# Altium integrated library Panasonic Relays Power Relays (Over 2A).IntLib: 286 symbols (part 7 of 8)
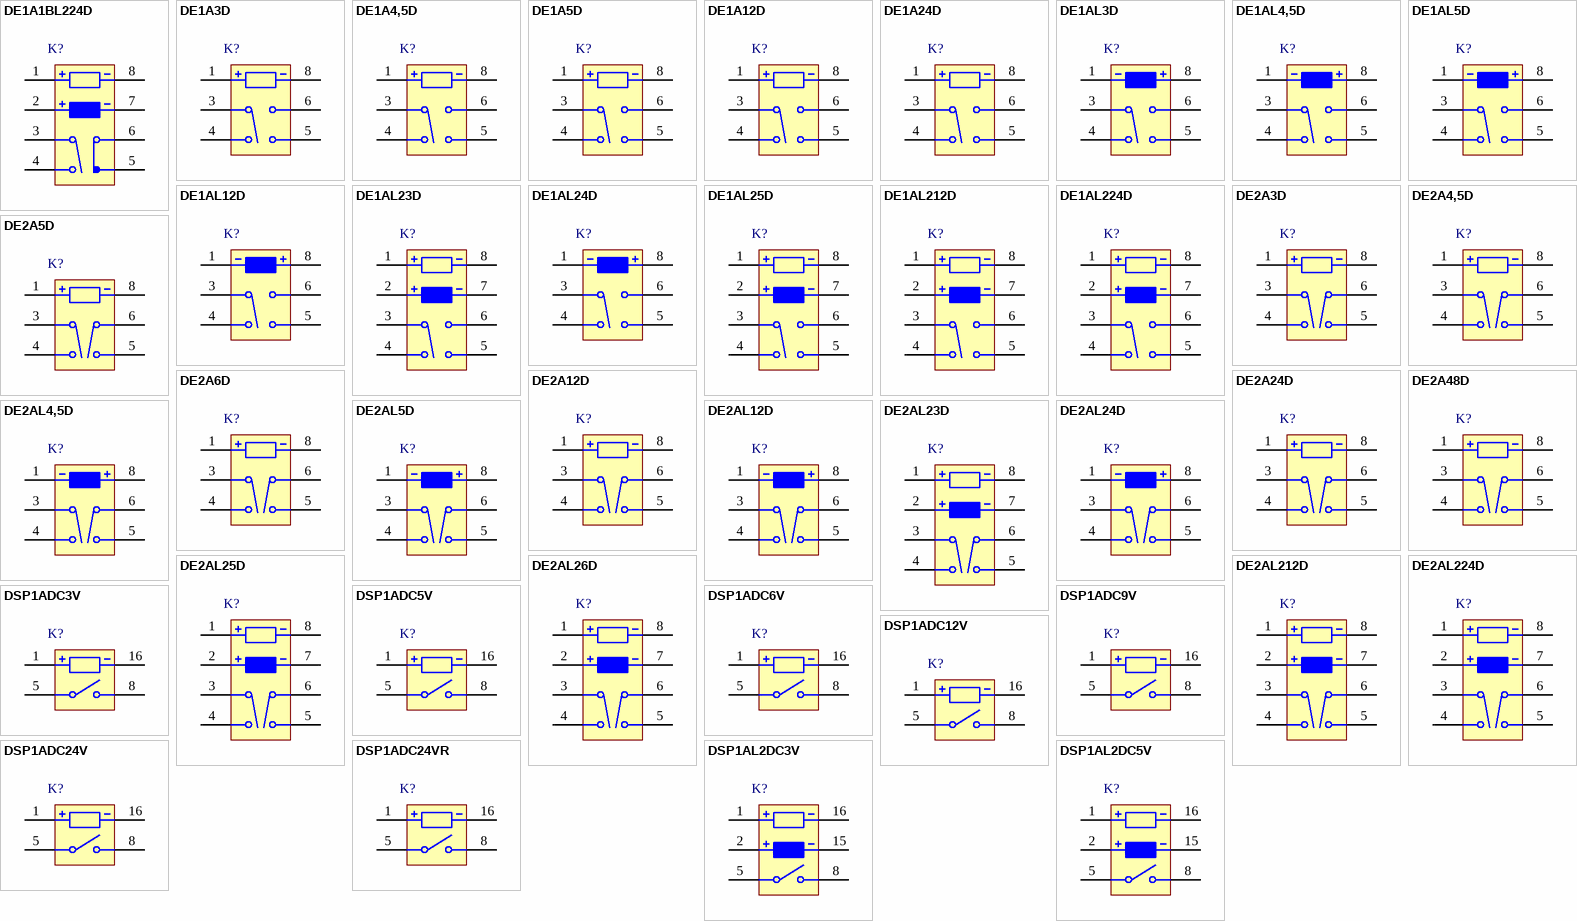
[diagram p13: symbols DE1A1BL224D to DSP1AL2DC5V]

## DSP1ADC24VR
designator K?
DSP Relays, 24 V Coil Voltage, 300 mW Nominal Operating Power, -40 to 65 degC, 4-Pin DSP, Carton, Case, RoHS; Manufacturer: Panasonic; PartNumber: DSP1ADC24VR; Coil Voltage: 24 V; Electrical Life: 1x10^5; Max Switching Current: 8 A; Max Switching Voltage: 250 V AC, 30 V DC; Mechanical Life(Min.operation): 5x10^7; Nominal Operating Power: 300 mW; Pb-Free: True; DatasheetVersion: 151106D; PackageVersion: 151106D, 04/2008; PackageReference: DSP-4-2020x1100x1050; PackageDescription: 4-Pin Through Hole Terminal Package, Body 20.2 x 11 mm; Packing: Carton, Case; RoHS: True; Series: DSP Relays; Mounting Technology: Through Hole; ComponentLink1Description: Manufacturer URL; ComponentLink1URL: http://www3.panasonic.biz/ac/ae/index.jsp; ComponentLink2Description: Datasheet; ComponentLink2URL: http://www.produktinfo.conrad.com/datenblaetter/500000-524999/504985-da-01-en-LEISTUNGSRELAIS_DSP1_1A1B_5A_12V.pdf; ComponentLink3Description: Package Specification; ComponentLink3URL: http://www.produktinfo.conrad.com/datenblaetter/500000-524999/504985-da-01-en-LEISTUNGSRELAIS_DSP1_1A1B_5A_12V.pdf
footprint PNSC-DSP-4-2020x1100x1050_V (DSP, 4-Leads, Body 20.2x11mm)
pins: 1 +, 5, 8, 16 -

## DSP1AL2DC3V
designator K?
DSP Relays, 3 V Coil Voltage, 300 mW Nominal Operating Power, -40 to 65 degC, 6-Pin DSP, Carton, Case, RoHS; Manufacturer: Panasonic; PartNumber: DSP1AL2DC3V; Coil Voltage: 3 V; Electrical Life: 1x10^5; Max Switching Current: 8 A; Max Switching Voltage: 250 V AC, 30 V DC; Mechanical Life(Min.operation): 5x10^7; Nominal Operating Power: 300 mW; Pb-Free: True; DatasheetVersion: 151106D; PackageVersion: 151106D, 04/2008; PackageReference: DSP-6-2020x1100x1050-1a; PackageDescription: 6-Pin Through Hole Terminal Package, Body 20.2 x 11 mm; Packing: Carton, Case; RoHS: True; Series: DSP Relays; Mounting Technology: Through Hole; ComponentLink1Description: Manufacturer URL; ComponentLink1URL: http://www3.panasonic.biz/ac/ae/index.jsp; ComponentLink2Description: Datasheet; ComponentLink2URL: http://www.produktinfo.conrad.com/datenblaetter/500000-524999/504985-da-01-en-LEISTUNGSRELAIS_DSP1_1A1B_5A_12V.pdf; ComponentLink3Description: Package Specification; ComponentLink3URL: http://www.produktinfo.conrad.com/datenblaetter/500000-524999/504985-da-01-en-LEISTUNGSRELAIS_DSP1_1A1B_5A_12V.pdf
footprint PNSC-DSP-6-2020x1100x1050-1a_V (DSP, 6-Leads, Body 20.2x11mm)
pins: 1 +, 2 +, 5, 8, 15 -, 16 -

## DSP1AL2DC5V
designator K?
DSP Relays, 5 V Coil Voltage, 300 mW Nominal Operating Power, -40 to 65 degC, 6-Pin DSP, Carton, Case, RoHS; Manufacturer: Panasonic; PartNumber: DSP1AL2DC5V; Coil Voltage: 5 V; Electrical Life: 1x10^5; Max Switching Current: 8 A; Max Switching Voltage: 250 V AC, 30 V DC; Mechanical Life(Min.operation): 5x10^7; Nominal Operating Power: 300 mW; Pb-Free: True; DatasheetVersion: 151106D; PackageVersion: 151106D, 04/2008; PackageReference: DSP-6-2020x1100x1050-1a; PackageDescription: 6-Pin Through Hole Terminal Package, Body 20.2 x 11 mm; Packing: Carton, Case; RoHS: True; Series: DSP Relays; Mounting Technology: Through Hole; ComponentLink1Description: Manufacturer URL; ComponentLink1URL: http://www3.panasonic.biz/ac/ae/index.jsp; ComponentLink2Description: Datasheet; ComponentLink2URL: http://www.produktinfo.conrad.com/datenblaetter/500000-524999/504985-da-01-en-LEISTUNGSRELAIS_DSP1_1A1B_5A_12V.pdf; ComponentLink3Description: Package Specification; ComponentLink3URL: http://www.produktinfo.conrad.com/datenblaetter/500000-524999/504985-da-01-en-LEISTUNGSRELAIS_DSP1_1A1B_5A_12V.pdf
footprint PNSC-DSP-6-2020x1100x1050-1a_V (DSP, 6-Leads, Body 20.2x11mm)
pins: 1 +, 2 +, 5, 8, 15 -, 16 -

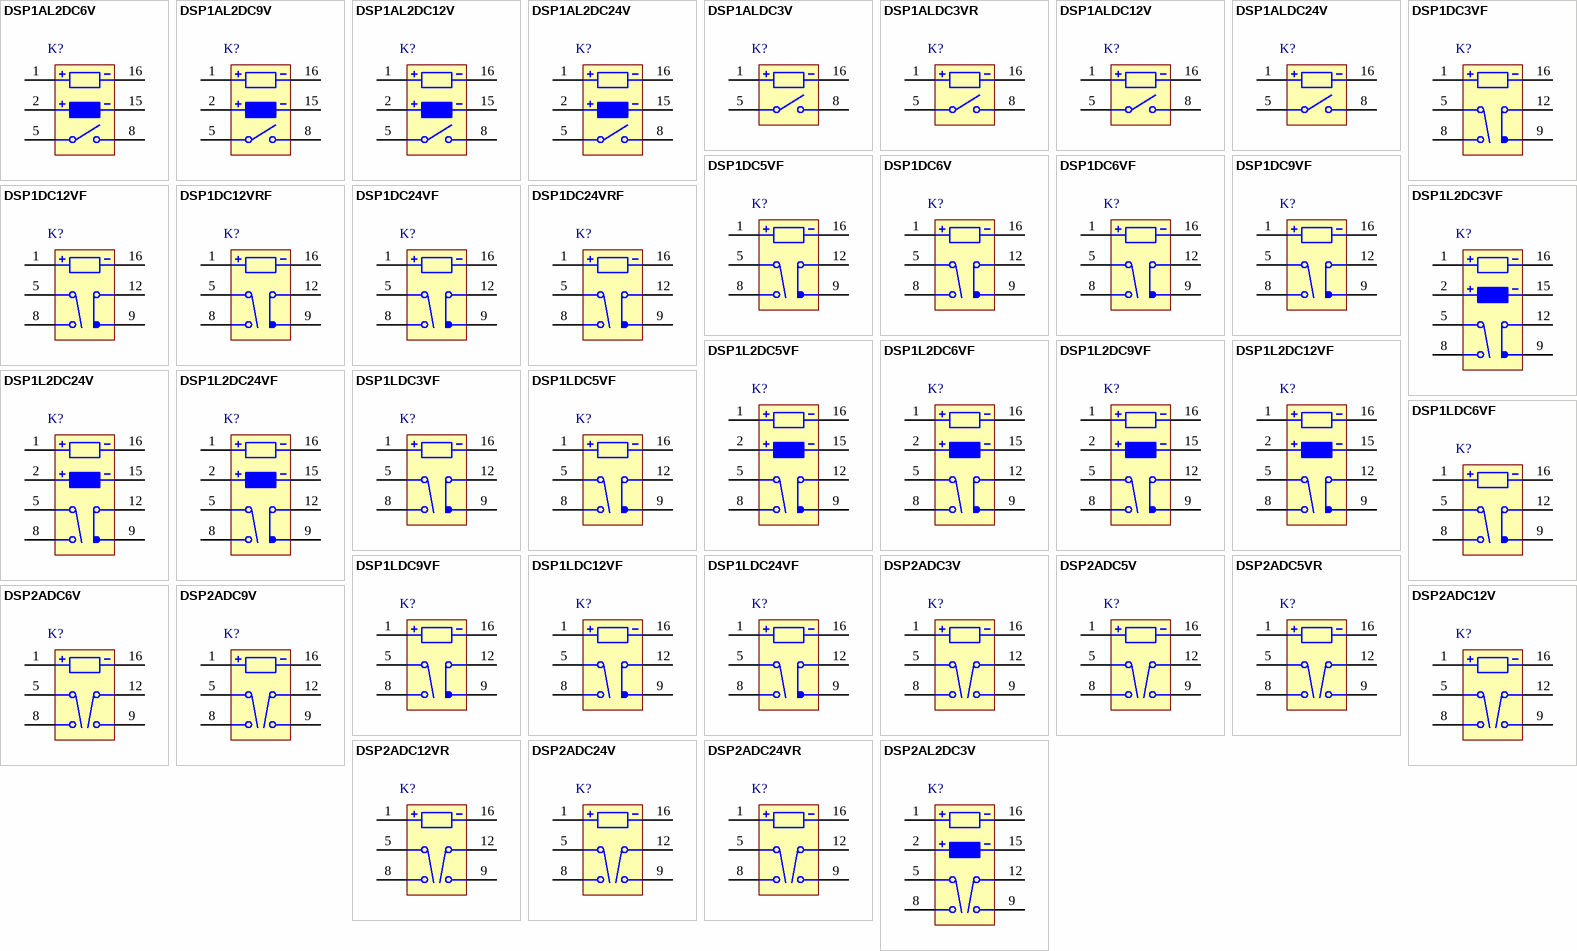
[diagram p6: symbols DSP1AL2DC6V to DSP2AL2DC3V]

## DSP1AL2DC6V
designator K?
DSP Relays, 6 V Coil Voltage, 300 mW Nominal Operating Power, -40 to 65 degC, 6-Pin DSP, Carton, Case, RoHS; Manufacturer: Panasonic; PartNumber: DSP1AL2DC6V; Coil Voltage: 6 V; Electrical Life: 1x10^5; Max Switching Current: 8 A; Max Switching Voltage: 250 V AC, 30 V DC; Mechanical Life(Min.operation): 5x10^7; Nominal Operating Power: 300 mW; Pb-Free: True; DatasheetVersion: 151106D; PackageVersion: 151106D, 04/2008; PackageReference: DSP-6-2020x1100x1050-1a; PackageDescription: 6-Pin Through Hole Terminal Package, Body 20.2 x 11 mm; Packing: Carton, Case; RoHS: True; Series: DSP Relays; Mounting Technology: Through Hole; ComponentLink1Description: Manufacturer URL; ComponentLink1URL: http://www3.panasonic.biz/ac/ae/index.jsp; ComponentLink2Description: Datasheet; ComponentLink2URL: http://www.produktinfo.conrad.com/datenblaetter/500000-524999/504985-da-01-en-LEISTUNGSRELAIS_DSP1_1A1B_5A_12V.pdf; ComponentLink3Description: Package Specification; ComponentLink3URL: http://www.produktinfo.conrad.com/datenblaetter/500000-524999/504985-da-01-en-LEISTUNGSRELAIS_DSP1_1A1B_5A_12V.pdf
footprint PNSC-DSP-6-2020x1100x1050-1a_V (DSP, 6-Leads, Body 20.2x11mm)
pins: 1 +, 2 +, 5, 8, 15 -, 16 -

## DSP1AL2DC9V
designator K?
DSP Relays, 9 V Coil Voltage, 300 mW Nominal Operating Power, -40 to 65 degC, 6-Pin DSP, Carton, Case, RoHS; Manufacturer: Panasonic; PartNumber: DSP1AL2DC9V; Coil Voltage: 9 V; Electrical Life: 1x10^5; Max Switching Current: 8 A; Max Switching Voltage: 250 V AC, 30 V DC; Mechanical Life(Min.operation): 5x10^7; Nominal Operating Power: 300 mW; Pb-Free: True; DatasheetVersion: 151106D; PackageVersion: 151106D, 04/2008; PackageReference: DSP-6-2020x1100x1050-1a; PackageDescription: 6-Pin Through Hole Terminal Package, Body 20.2 x 11 mm; Packing: Carton, Case; RoHS: True; Series: DSP Relays; Mounting Technology: Through Hole; ComponentLink1Description: Manufacturer URL; ComponentLink1URL: http://www3.panasonic.biz/ac/ae/index.jsp; ComponentLink2Description: Datasheet; ComponentLink2URL: http://www.produktinfo.conrad.com/datenblaetter/500000-524999/504985-da-01-en-LEISTUNGSRELAIS_DSP1_1A1B_5A_12V.pdf; ComponentLink3Description: Package Specification; ComponentLink3URL: http://www.produktinfo.conrad.com/datenblaetter/500000-524999/504985-da-01-en-LEISTUNGSRELAIS_DSP1_1A1B_5A_12V.pdf
footprint PNSC-DSP-6-2020x1100x1050-1a_V (DSP, 6-Leads, Body 20.2x11mm)
pins: 1 +, 2 +, 5, 8, 15 -, 16 -

## DSP1AL2DC12V
designator K?
DSP Relays, 12 V Coil Voltage, 300 mW Nominal Operating Power, -40 to 65 degC, 6-Pin DSP, Carton, Case, RoHS; Manufacturer: Panasonic; PartNumber: DSP1AL2DC12V; Coil Voltage: 12 V; Electrical Life: 1x10^5; Max Switching Current: 8 A; Max Switching Voltage: 250 V AC, 30 V DC; Mechanical Life(Min.operation): 5x10^7; Nominal Operating Power: 300 mW; Pb-Free: True; DatasheetVersion: 151106D; PackageVersion: 151106D, 04/2008; PackageReference: DSP-6-2020x1100x1050-1a; PackageDescription: 6-Pin Through Hole Terminal Package, Body 20.2 x 11 mm; Packing: Carton, Case; RoHS: True; Series: DSP Relays; Mounting Technology: Through Hole; ComponentLink1Description: Manufacturer URL; ComponentLink1URL: http://www3.panasonic.biz/ac/ae/index.jsp; ComponentLink2Description: Datasheet; ComponentLink2URL: http://www.produktinfo.conrad.com/datenblaetter/500000-524999/504985-da-01-en-LEISTUNGSRELAIS_DSP1_1A1B_5A_12V.pdf; ComponentLink3Description: Package Specification; ComponentLink3URL: http://www.produktinfo.conrad.com/datenblaetter/500000-524999/504985-da-01-en-LEISTUNGSRELAIS_DSP1_1A1B_5A_12V.pdf
footprint PNSC-DSP-6-2020x1100x1050-1a_V (DSP, 6-Leads, Body 20.2x11mm)
pins: 1 +, 2 +, 5, 8, 15 -, 16 -

## DSP1AL2DC24V
designator K?
DSP Relays, 24 V Coil Voltage, 300 mW Nominal Operating Power, -40 to 65 degC, 6-Pin DSP, Carton, Case, RoHS; Manufacturer: Panasonic; PartNumber: DSP1AL2DC24V; Coil Voltage: 24 V; Electrical Life: 1x10^5; Max Switching Current: 8 A; Max Switching Voltage: 250 V AC, 30 V DC; Mechanical Life(Min.operation): 5x10^7; Nominal Operating Power: 300 mW; Pb-Free: True; DatasheetVersion: 151106D; PackageVersion: 151106D, 04/2008; PackageReference: DSP-6-2020x1100x1050-1a; PackageDescription: 6-Pin Through Hole Terminal Package, Body 20.2 x 11 mm; Packing: Carton, Case; RoHS: True; Series: DSP Relays; Mounting Technology: Through Hole; ComponentLink1Description: Manufacturer URL; ComponentLink1URL: http://www3.panasonic.biz/ac/ae/index.jsp; ComponentLink2Description: Datasheet; ComponentLink2URL: http://www.produktinfo.conrad.com/datenblaetter/500000-524999/504985-da-01-en-LEISTUNGSRELAIS_DSP1_1A1B_5A_12V.pdf; ComponentLink3Description: Package Specification; ComponentLink3URL: http://www.produktinfo.conrad.com/datenblaetter/500000-524999/504985-da-01-en-LEISTUNGSRELAIS_DSP1_1A1B_5A_12V.pdf
footprint PNSC-DSP-6-2020x1100x1050-1a_V (DSP, 6-Leads, Body 20.2x11mm)
pins: 1 +, 2 +, 5, 8, 15 -, 16 -

## DSP1ALDC3V
designator K?
DSP Relays, 3 V Coil Voltage, 150 mW Nominal Operating Power, -40 to 65 degC, 4-Pin DSP, Carton, Case, RoHS; Manufacturer: Panasonic; PartNumber: DSP1ALDC3V; Coil Voltage: 3 V; Electrical Life: 1x10^5; Max Switching Current: 8 A; Max Switching Voltage: 250 V AC, 30 V DC; Mechanical Life(Min.operation): 5x10^7; Nominal Operating Power: 150 mW; Pb-Free: True; DatasheetVersion: 151106D; PackageVersion: 151106D, 04/2008; PackageReference: DSP-4-2020x1100x1050; PackageDescription: 4-Pin Through Hole Terminal Package, Body 20.2 x 11 mm; Packing: Carton, Case; RoHS: True; Series: DSP Relays; Mounting Technology: Through Hole; ComponentLink1Description: Manufacturer URL; ComponentLink1URL: http://www3.panasonic.biz/ac/ae/index.jsp; ComponentLink2Description: Datasheet; ComponentLink2URL: http://www.produktinfo.conrad.com/datenblaetter/500000-524999/504985-da-01-en-LEISTUNGSRELAIS_DSP1_1A1B_5A_12V.pdf; ComponentLink3Description: Package Specification; ComponentLink3URL: http://www.produktinfo.conrad.com/datenblaetter/500000-524999/504985-da-01-en-LEISTUNGSRELAIS_DSP1_1A1B_5A_12V.pdf
footprint PNSC-DSP-4-2020x1100x1050_V (DSP, 4-Leads, Body 20.2x11mm)
pins: 1 +, 5, 8, 16 -

## DSP1ALDC3VR
designator K?
DSP Relays, 3 V Coil Voltage, 150 mW Nominal Operating Power, -40 to 65 degC, 4-Pin DSP, Carton, Case, RoHS; Manufacturer: Panasonic; PartNumber: DSP1ALDC3VR; Coil Voltage: 3 V; Electrical Life: 1x10^5; Max Switching Current: 8 A; Max Switching Voltage: 250 V AC, 30 V DC; Mechanical Life(Min.operation): 5x10^7; Nominal Operating Power: 150 mW; Pb-Free: True; DatasheetVersion: 151106D; PackageVersion: 151106D, 04/2008; PackageReference: DSP-4-2020x1100x1050; PackageDescription: 4-Pin Through Hole Terminal Package, Body 20.2 x 11 mm; Packing: Carton, Case; RoHS: True; Series: DSP Relays; Mounting Technology: Through Hole; ComponentLink1Description: Manufacturer URL; ComponentLink1URL: http://www3.panasonic.biz/ac/ae/index.jsp; ComponentLink2Description: Datasheet; ComponentLink2URL: http://www.produktinfo.conrad.com/datenblaetter/500000-524999/504985-da-01-en-LEISTUNGSRELAIS_DSP1_1A1B_5A_12V.pdf; ComponentLink3Description: Package Specification; ComponentLink3URL: http://www.produktinfo.conrad.com/datenblaetter/500000-524999/504985-da-01-en-LEISTUNGSRELAIS_DSP1_1A1B_5A_12V.pdf
footprint PNSC-DSP-4-2020x1100x1050_V (DSP, 4-Leads, Body 20.2x11mm)
pins: 1 +, 5, 8, 16 -

## DSP1ALDC12V
designator K?
DSP Relays, 12 V Coil Voltage, 150 mW Nominal Operating Power, -40 to 65 degC, 4-Pin DSP, Carton, Case, RoHS; Manufacturer: Panasonic; PartNumber: DSP1ALDC12V; Coil Voltage: 12 V; Electrical Life: 1x10^5; Max Switching Current: 8 A; Max Switching Voltage: 250 V AC, 30 V DC; Mechanical Life(Min.operation): 5x10^7; Nominal Operating Power: 150 mW; Pb-Free: True; DatasheetVersion: 151106D; PackageVersion: 151106D, 04/2008; PackageReference: DSP-4-2020x1100x1050; PackageDescription: 4-Pin Through Hole Terminal Package, Body 20.2 x 11 mm; Packing: Carton, Case; RoHS: True; Series: DSP Relays; Mounting Technology: Through Hole; ComponentLink1Description: Manufacturer URL; ComponentLink1URL: http://www3.panasonic.biz/ac/ae/index.jsp; ComponentLink2Description: Datasheet; ComponentLink2URL: http://www.produktinfo.conrad.com/datenblaetter/500000-524999/504985-da-01-en-LEISTUNGSRELAIS_DSP1_1A1B_5A_12V.pdf; ComponentLink3Description: Package Specification; ComponentLink3URL: http://www.produktinfo.conrad.com/datenblaetter/500000-524999/504985-da-01-en-LEISTUNGSRELAIS_DSP1_1A1B_5A_12V.pdf
footprint PNSC-DSP-4-2020x1100x1050_V (DSP, 4-Leads, Body 20.2x11mm)
pins: 1 +, 5, 8, 16 -

## DSP1ALDC24V
designator K?
DSP Relays, 24 V Coil Voltage, 150 mW Nominal Operating Power, -40 to 65 degC, 4-Pin DSP, Carton, Case, RoHS; Manufacturer: Panasonic; PartNumber: DSP1ALDC24V; Coil Voltage: 24 V; Electrical Life: 1x10^5; Max Switching Current: 8 A; Max Switching Voltage: 250 V AC, 30 V DC; Mechanical Life(Min.operation): 5x10^7; Nominal Operating Power: 150 mW; Pb-Free: True; DatasheetVersion: 151106D; PackageVersion: 151106D, 04/2008; PackageReference: DSP-4-2020x1100x1050; PackageDescription: 4-Pin Through Hole Terminal Package, Body 20.2 x 11 mm; Packing: Carton, Case; RoHS: True; Series: DSP Relays; Mounting Technology: Through Hole; ComponentLink1Description: Manufacturer URL; ComponentLink1URL: http://www3.panasonic.biz/ac/ae/index.jsp; ComponentLink2Description: Datasheet; ComponentLink2URL: http://www.produktinfo.conrad.com/datenblaetter/500000-524999/504985-da-01-en-LEISTUNGSRELAIS_DSP1_1A1B_5A_12V.pdf; ComponentLink3Description: Package Specification; ComponentLink3URL: http://www.produktinfo.conrad.com/datenblaetter/500000-524999/504985-da-01-en-LEISTUNGSRELAIS_DSP1_1A1B_5A_12V.pdf
footprint PNSC-DSP-4-2020x1100x1050_V (DSP, 4-Leads, Body 20.2x11mm)
pins: 1 +, 5, 8, 16 -

## DSP1DC3VF
designator K?
DSP Relays, 3 V Coil Voltage, 300 mW Nominal Operating Power, -40 to 65 degC, 6-Pin DSP, Carton, Case, RoHS; Manufacturer: Panasonic; PartNumber: DSP1DC3VF; Coil Voltage: 3 V; Electrical Life: 1x10^5; Max Switching Current: 5 A; Max Switching Voltage: 250 V AC, 30 V DC; Mechanical Life(Min.operation): 5x10^7; Nominal Operating Power: 300 mW; Pb-Free: True; DatasheetVersion: 151106D; PackageVersion: 151106D, 04/2008; PackageReference: DSP-6-2020x1100x1050-1; PackageDescription: 6-Pin Through Hole Terminal Package, Body 20.2 x 11 mm; Packing: Carton, Case; RoHS: True; Series: DSP Relays; Mounting Technology: Through Hole; ComponentLink1Description: Manufacturer URL; ComponentLink1URL: http://www3.panasonic.biz/ac/ae/index.jsp; ComponentLink2Description: Datasheet; ComponentLink2URL: http://www.produktinfo.conrad.com/datenblaetter/500000-524999/504985-da-01-en-LEISTUNGSRELAIS_DSP1_1A1B_5A_12V.pdf; ComponentLink3Description: Package Specification; ComponentLink3URL: http://www.produktinfo.conrad.com/datenblaetter/500000-524999/504985-da-01-en-LEISTUNGSRELAIS_DSP1_1A1B_5A_12V.pdf
footprint PNSC-DSP-6-2020x1100x1050-1_V (DSP, 6-Leads, Body 20.2x11mm)
pins: 1 +, 5, 8, 9, 12, 16 -

## DSP1DC5VF
designator K?
DSP Relays, 5 V Coil Voltage, 300 mW Nominal Operating Power, -40 to 65 degC, 6-Pin DSP, Carton, Case, RoHS; Manufacturer: Panasonic; PartNumber: DSP1DC5VF; Coil Voltage: 5 V; Electrical Life: 1x10^5; Max Switching Current: 5 A; Max Switching Voltage: 250 V AC, 30 V DC; Mechanical Life(Min.operation): 5x10^7; Nominal Operating Power: 300 mW; Pb-Free: True; DatasheetVersion: 151106D; PackageVersion: 151106D, 04/2008; PackageReference: DSP-6-2020x1100x1050-1; PackageDescription: 6-Pin Through Hole Terminal Package, Body 20.2 x 11 mm; Packing: Carton, Case; RoHS: True; Series: DSP Relays; Mounting Technology: Through Hole; ComponentLink1Description: Manufacturer URL; ComponentLink1URL: http://www3.panasonic.biz/ac/ae/index.jsp; ComponentLink2Description: Datasheet; ComponentLink2URL: http://www.produktinfo.conrad.com/datenblaetter/500000-524999/504985-da-01-en-LEISTUNGSRELAIS_DSP1_1A1B_5A_12V.pdf; ComponentLink3Description: Package Specification; ComponentLink3URL: http://www.produktinfo.conrad.com/datenblaetter/500000-524999/504985-da-01-en-LEISTUNGSRELAIS_DSP1_1A1B_5A_12V.pdf
footprint PNSC-DSP-6-2020x1100x1050-1_V (DSP, 6-Leads, Body 20.2x11mm)
pins: 1 +, 5, 8, 9, 12, 16 -

## DSP1DC6V
designator K?
DSP Relays, 6 V Coil Voltage, 300 mW Nominal Operating Power, -40 to 65 degC, 6-Pin DSP, Carton, Case, RoHS; Manufacturer: Panasonic; PartNumber: DSP1DC6V; Coil Voltage: 6 V; Electrical Life: 1x10^5; Max Switching Current: 5 A; Max Switching Voltage: 250 V AC, 30 V DC; Mechanical Life(Min.operation): 5x10^7; Nominal Operating Power: 300 mW; Pb-Free: True; DatasheetVersion: 151106D; PackageVersion: 151106D, 04/2008; PackageReference: DSP-6-2020x1100x1050-1; PackageDescription: 6-Pin Through Hole Terminal Package, Body 20.2 x 11 mm; Packing: Carton, Case; RoHS: True; Series: DSP Relays; Mounting Technology: Through Hole; ComponentLink1Description: Manufacturer URL; ComponentLink1URL: http://www3.panasonic.biz/ac/ae/index.jsp; ComponentLink2Description: Datasheet; ComponentLink2URL: http://www.produktinfo.conrad.com/datenblaetter/500000-524999/504985-da-01-en-LEISTUNGSRELAIS_DSP1_1A1B_5A_12V.pdf; ComponentLink3Description: Package Specification; ComponentLink3URL: http://www.produktinfo.conrad.com/datenblaetter/500000-524999/504985-da-01-en-LEISTUNGSRELAIS_DSP1_1A1B_5A_12V.pdf
footprint PNSC-DSP-6-2020x1100x1050-1_V (DSP, 6-Leads, Body 20.2x11mm)
pins: 1 +, 5, 8, 9, 12, 16 -

## DSP1DC6VF
designator K?
DSP Relays, 6 V Coil Voltage, 300 mW Nominal Operating Power, -40 to 65 degC, 6-Pin DSP, Carton, Case, RoHS; Manufacturer: Panasonic; PartNumber: DSP1DC6VF; Coil Voltage: 6 V; Electrical Life: 1x10^5; Max Switching Current: 5 A; Max Switching Voltage: 250 V AC, 30 V DC; Mechanical Life(Min.operation): 5x10^7; Nominal Operating Power: 300 mW; Pb-Free: True; DatasheetVersion: 151106D; PackageVersion: 151106D, 04/2008; PackageReference: DSP-6-2020x1100x1050-1; PackageDescription: 6-Pin Through Hole Terminal Package, Body 20.2 x 11 mm; Packing: Carton, Case; RoHS: True; Series: DSP Relays; Mounting Technology: Through Hole; ComponentLink1Description: Manufacturer URL; ComponentLink1URL: http://www3.panasonic.biz/ac/ae/index.jsp; ComponentLink2Description: Datasheet; ComponentLink2URL: http://www.produktinfo.conrad.com/datenblaetter/500000-524999/504985-da-01-en-LEISTUNGSRELAIS_DSP1_1A1B_5A_12V.pdf; ComponentLink3Description: Package Specification; ComponentLink3URL: http://www.produktinfo.conrad.com/datenblaetter/500000-524999/504985-da-01-en-LEISTUNGSRELAIS_DSP1_1A1B_5A_12V.pdf
footprint PNSC-DSP-6-2020x1100x1050-1_V (DSP, 6-Leads, Body 20.2x11mm)
pins: 1 +, 5, 8, 9, 12, 16 -

## DSP1DC9VF
designator K?
DSP Relays, 9 V Coil Voltage, 300 mW Nominal Operating Power, -40 to 65 degC, 6-Pin DSP, Carton, Case, RoHS; Manufacturer: Panasonic; PartNumber: DSP1DC9VF; Coil Voltage: 9 V; Electrical Life: 1x10^5; Max Switching Current: 5 A; Max Switching Voltage: 250 V AC, 30 V DC; Mechanical Life(Min.operation): 5x10^7; Nominal Operating Power: 300 mW; Pb-Free: True; DatasheetVersion: 151106D; PackageVersion: 151106D, 04/2008; PackageReference: DSP-6-2020x1100x1050-1; PackageDescription: 6-Pin Through Hole Terminal Package, Body 20.2 x 11 mm; Packing: Carton, Case; RoHS: True; Series: DSP Relays; Mounting Technology: Through Hole; ComponentLink1Description: Manufacturer URL; ComponentLink1URL: http://www3.panasonic.biz/ac/ae/index.jsp; ComponentLink2Description: Datasheet; ComponentLink2URL: http://www.produktinfo.conrad.com/datenblaetter/500000-524999/504985-da-01-en-LEISTUNGSRELAIS_DSP1_1A1B_5A_12V.pdf; ComponentLink3Description: Package Specification; ComponentLink3URL: http://www.produktinfo.conrad.com/datenblaetter/500000-524999/504985-da-01-en-LEISTUNGSRELAIS_DSP1_1A1B_5A_12V.pdf
footprint PNSC-DSP-6-2020x1100x1050-1_V (DSP, 6-Leads, Body 20.2x11mm)
pins: 1 +, 5, 8, 9, 12, 16 -

## DSP1DC12VF
designator K?
DSP Relays, 12 V Coil Voltage, 300 mW Nominal Operating Power, -40 to 65 degC, 6-Pin DSP, Carton, Case, RoHS; Manufacturer: Panasonic; PartNumber: DSP1DC12VF; Coil Voltage: 12 V; Electrical Life: 1x10^5; Max Switching Current: 5 A; Max Switching Voltage: 250 V AC, 30 V DC; Mechanical Life(Min.operation): 5x10^7; Nominal Operating Power: 300 mW; Pb-Free: True; DatasheetVersion: 151106D; PackageVersion: 151106D, 04/2008; PackageReference: DSP-6-2020x1100x1050-1; PackageDescription: 6-Pin Through Hole Terminal Package, Body 20.2 x 11 mm; Packing: Carton, Case; RoHS: True; Series: DSP Relays; Mounting Technology: Through Hole; ComponentLink1Description: Manufacturer URL; ComponentLink1URL: http://www3.panasonic.biz/ac/ae/index.jsp; ComponentLink2Description: Datasheet; ComponentLink2URL: http://www.produktinfo.conrad.com/datenblaetter/500000-524999/504985-da-01-en-LEISTUNGSRELAIS_DSP1_1A1B_5A_12V.pdf; ComponentLink3Description: Package Specification; ComponentLink3URL: http://www.produktinfo.conrad.com/datenblaetter/500000-524999/504985-da-01-en-LEISTUNGSRELAIS_DSP1_1A1B_5A_12V.pdf
footprint PNSC-DSP-6-2020x1100x1050-1_V (DSP, 6-Leads, Body 20.2x11mm)
pins: 1 +, 5, 8, 9, 12, 16 -

## DSP1DC12VRF
designator K?
DSP Relays, 12 V Coil Voltage, 300 mW Nominal Operating Power, -40 to 65 degC, 6-Pin DSP, Carton, Case, RoHS; Manufacturer: Panasonic; PartNumber: DSP1DC12VRF; Coil Voltage: 12 V; Electrical Life: 1x10^5; Max Switching Current: 5 A; Max Switching Voltage: 250 V AC, 30 V DC; Mechanical Life(Min.operation): 5x10^7; Nominal Operating Power: 300 mW; Pb-Free: True; DatasheetVersion: 151106D; PackageVersion: 151106D, 04/2008; PackageReference: DSP-6-2020x1100x1050-1; PackageDescription: 6-Pin Through Hole Terminal Package, Body 20.2 x 11 mm; Packing: Carton, Case; RoHS: True; Series: DSP Relays; Mounting Technology: Through Hole; ComponentLink1Description: Manufacturer URL; ComponentLink1URL: http://www3.panasonic.biz/ac/ae/index.jsp; ComponentLink2Description: Datasheet; ComponentLink2URL: http://www.produktinfo.conrad.com/datenblaetter/500000-524999/504985-da-01-en-LEISTUNGSRELAIS_DSP1_1A1B_5A_12V.pdf; ComponentLink3Description: Package Specification; ComponentLink3URL: http://www.produktinfo.conrad.com/datenblaetter/500000-524999/504985-da-01-en-LEISTUNGSRELAIS_DSP1_1A1B_5A_12V.pdf
footprint PNSC-DSP-6-2020x1100x1050-1_V (DSP, 6-Leads, Body 20.2x11mm)
pins: 1 +, 5, 8, 9, 12, 16 -

## DSP1DC24VF
designator K?
DSP Relays, 24 V Coil Voltage, 300 mW Nominal Operating Power, -40 to 65 degC, 6-Pin DSP, Carton, Case, RoHS; Manufacturer: Panasonic; PartNumber: DSP1DC24VF; Coil Voltage: 24 V; Electrical Life: 1x10^5; Max Switching Current: 5 A; Max Switching Voltage: 250 V AC, 30 V DC; Mechanical Life(Min.operation): 5x10^7; Nominal Operating Power: 300 mW; Pb-Free: True; DatasheetVersion: 151106D; PackageVersion: 151106D, 04/2008; PackageReference: DSP-6-2020x1100x1050-1; PackageDescription: 6-Pin Through Hole Terminal Package, Body 20.2 x 11 mm; Packing: Carton, Case; RoHS: True; Series: DSP Relays; Mounting Technology: Through Hole; ComponentLink1Description: Manufacturer URL; ComponentLink1URL: http://www3.panasonic.biz/ac/ae/index.jsp; ComponentLink2Description: Datasheet; ComponentLink2URL: http://www.produktinfo.conrad.com/datenblaetter/500000-524999/504985-da-01-en-LEISTUNGSRELAIS_DSP1_1A1B_5A_12V.pdf; ComponentLink3Description: Package Specification; ComponentLink3URL: http://www.produktinfo.conrad.com/datenblaetter/500000-524999/504985-da-01-en-LEISTUNGSRELAIS_DSP1_1A1B_5A_12V.pdf
footprint PNSC-DSP-6-2020x1100x1050-1_V (DSP, 6-Leads, Body 20.2x11mm)
pins: 1 +, 5, 8, 9, 12, 16 -

## DSP1DC24VRF
designator K?
DSP Relays, 24 V Coil Voltage, 300 mW Nominal Operating Power, -40 to 65 degC, 6-Pin DSP, Carton, Case, RoHS; Manufacturer: Panasonic; PartNumber: DSP1DC24VRF; Coil Voltage: 24 V; Electrical Life: 1x10^5; Max Switching Current: 5 A; Max Switching Voltage: 250 V AC, 30 V DC; Mechanical Life(Min.operation): 5x10^7; Nominal Operating Power: 300 mW; Pb-Free: True; DatasheetVersion: 151106D; PackageVersion: 151106D, 04/2008; PackageReference: DSP-6-2020x1100x1050-1; PackageDescription: 6-Pin Through Hole Terminal Package, Body 20.2 x 11 mm; Packing: Carton, Case; RoHS: True; Series: DSP Relays; Mounting Technology: Through Hole; ComponentLink1Description: Manufacturer URL; ComponentLink1URL: http://www3.panasonic.biz/ac/ae/index.jsp; ComponentLink2Description: Datasheet; ComponentLink2URL: http://www.produktinfo.conrad.com/datenblaetter/500000-524999/504985-da-01-en-LEISTUNGSRELAIS_DSP1_1A1B_5A_12V.pdf; ComponentLink3Description: Package Specification; ComponentLink3URL: http://www.produktinfo.conrad.com/datenblaetter/500000-524999/504985-da-01-en-LEISTUNGSRELAIS_DSP1_1A1B_5A_12V.pdf
footprint PNSC-DSP-6-2020x1100x1050-1_V (DSP, 6-Leads, Body 20.2x11mm)
pins: 1 +, 5, 8, 9, 12, 16 -

## DSP1L2DC3VF
designator K?
DSP Relays, 3 V Coil Voltage, 300 mW Nominal Operating Power, -40 to 65 degC, 8-Pin DSP, Carton, Case, RoHS; Manufacturer: Panasonic; PartNumber: DSP1L2DC3VF; Coil Voltage: 3 V; Electrical Life: 1x10^5; Max Switching Current: 5 A; Max Switching Voltage: 250 V AC, 30 V DC; Mechanical Life(Min.operation): 5x10^7; Nominal Operating Power: 300 mW; Pb-Free: True; DatasheetVersion: 151106D; PackageVersion: 151106D, 04/2008; PackageReference: DSP-8-2020x1100x1050; PackageDescription: 8-Pin Through Hole Terminal Package, Body 20.2 x 11 mm; Packing: Carton, Case; RoHS: True; Series: DSP Relays; Mounting Technology: Through Hole; ComponentLink1Description: Manufacturer URL; ComponentLink1URL: http://www3.panasonic.biz/ac/ae/index.jsp; ComponentLink2Description: Datasheet; ComponentLink2URL: http://www.produktinfo.conrad.com/datenblaetter/500000-524999/504985-da-01-en-LEISTUNGSRELAIS_DSP1_1A1B_5A_12V.pdf; ComponentLink3Description: Package Specification; ComponentLink3URL: http://www.produktinfo.conrad.com/datenblaetter/500000-524999/504985-da-01-en-LEISTUNGSRELAIS_DSP1_1A1B_5A_12V.pdf
footprint PNSC-DSP-8-2020x1100x1050_V (DSP, 8-Leads, Body 20.2x11mm)
pins: 1 +, 2 +, 5, 8, 9, 12, 15 -, 16 -

## DSP1L2DC5VF
designator K?
DSP Relays, 5 V Coil Voltage, 300 mW Nominal Operating Power, -40 to 65 degC, 8-Pin DSP, Carton, Case, RoHS; Manufacturer: Panasonic; PartNumber: DSP1L2DC5VF; Coil Voltage: 5 V; Electrical Life: 1x10^5; Max Switching Current: 5 A; Max Switching Voltage: 250 V AC, 30 V DC; Mechanical Life(Min.operation): 5x10^7; Nominal Operating Power: 300 mW; Pb-Free: True; DatasheetVersion: 151106D; PackageVersion: 151106D, 04/2008; PackageReference: DSP-8-2020x1100x1050; PackageDescription: 8-Pin Through Hole Terminal Package, Body 20.2 x 11 mm; Packing: Carton, Case; RoHS: True; Series: DSP Relays; Mounting Technology: Through Hole; ComponentLink1Description: Manufacturer URL; ComponentLink1URL: http://www3.panasonic.biz/ac/ae/index.jsp; ComponentLink2Description: Datasheet; ComponentLink2URL: http://www.produktinfo.conrad.com/datenblaetter/500000-524999/504985-da-01-en-LEISTUNGSRELAIS_DSP1_1A1B_5A_12V.pdf; ComponentLink3Description: Package Specification; ComponentLink3URL: http://www.produktinfo.conrad.com/datenblaetter/500000-524999/504985-da-01-en-LEISTUNGSRELAIS_DSP1_1A1B_5A_12V.pdf
footprint PNSC-DSP-8-2020x1100x1050_V (DSP, 8-Leads, Body 20.2x11mm)
pins: 1 +, 2 +, 5, 8, 9, 12, 15 -, 16 -

## DSP1L2DC6VF
designator K?
DSP Relays, 6 V Coil Voltage, 300 mW Nominal Operating Power, -40 to 65 degC, 8-Pin DSP, Carton, Case, RoHS; Manufacturer: Panasonic; PartNumber: DSP1L2DC6VF; Coil Voltage: 6 V; Electrical Life: 1x10^5; Max Switching Current: 5 A; Max Switching Voltage: 250 V AC, 30 V DC; Mechanical Life(Min.operation): 5x10^7; Nominal Operating Power: 300 mW; Pb-Free: True; DatasheetVersion: 151106D; PackageVersion: 151106D, 04/2008; PackageReference: DSP-8-2020x1100x1050; PackageDescription: 8-Pin Through Hole Terminal Package, Body 20.2 x 11 mm; Packing: Carton, Case; RoHS: True; Series: DSP Relays; Mounting Technology: Through Hole; ComponentLink1Description: Manufacturer URL; ComponentLink1URL: http://www3.panasonic.biz/ac/ae/index.jsp; ComponentLink2Description: Datasheet; ComponentLink2URL: http://www.produktinfo.conrad.com/datenblaetter/500000-524999/504985-da-01-en-LEISTUNGSRELAIS_DSP1_1A1B_5A_12V.pdf; ComponentLink3Description: Package Specification; ComponentLink3URL: http://www.produktinfo.conrad.com/datenblaetter/500000-524999/504985-da-01-en-LEISTUNGSRELAIS_DSP1_1A1B_5A_12V.pdf
footprint PNSC-DSP-8-2020x1100x1050_V (DSP, 8-Leads, Body 20.2x11mm)
pins: 1 +, 2 +, 5, 8, 9, 12, 15 -, 16 -

## DSP1L2DC9VF
designator K?
DSP Relays, 9 V Coil Voltage, 300 mW Nominal Operating Power, -40 to 65 degC, 8-Pin DSP, Carton, Case, RoHS; Manufacturer: Panasonic; PartNumber: DSP1L2DC9VF; Coil Voltage: 9 V; Electrical Life: 1x10^5; Max Switching Current: 5 A; Max Switching Voltage: 250 V AC, 30 V DC; Mechanical Life(Min.operation): 5x10^7; Nominal Operating Power: 300 mW; Pb-Free: True; DatasheetVersion: 151106D; PackageVersion: 151106D, 04/2008; PackageReference: DSP-8-2020x1100x1050; PackageDescription: 8-Pin Through Hole Terminal Package, Body 20.2 x 11 mm; Packing: Carton, Case; RoHS: True; Series: DSP Relays; Mounting Technology: Through Hole; ComponentLink1Description: Manufacturer URL; ComponentLink1URL: http://www3.panasonic.biz/ac/ae/index.jsp; ComponentLink2Description: Datasheet; ComponentLink2URL: http://www.produktinfo.conrad.com/datenblaetter/500000-524999/504985-da-01-en-LEISTUNGSRELAIS_DSP1_1A1B_5A_12V.pdf; ComponentLink3Description: Package Specification; ComponentLink3URL: http://www.produktinfo.conrad.com/datenblaetter/500000-524999/504985-da-01-en-LEISTUNGSRELAIS_DSP1_1A1B_5A_12V.pdf
footprint PNSC-DSP-8-2020x1100x1050_V (DSP, 8-Leads, Body 20.2x11mm)
pins: 1 +, 2 +, 5, 8, 9, 12, 15 -, 16 -

## DSP1L2DC12VF
designator K?
DSP Relays, 12 V Coil Voltage, 300 mW Nominal Operating Power, -40 to 65 degC, 8-Pin DSP, Carton, Case, RoHS; Manufacturer: Panasonic; PartNumber: DSP1L2DC12VF; Coil Voltage: 12 V; Electrical Life: 1x10^5; Max Switching Current: 5 A; Max Switching Voltage: 250 V AC, 30 V DC; Mechanical Life(Min.operation): 5x10^7; Nominal Operating Power: 300 mW; Pb-Free: True; DatasheetVersion: 151106D; PackageVersion: 151106D, 04/2008; PackageReference: DSP-8-2020x1100x1050; PackageDescription: 8-Pin Through Hole Terminal Package, Body 20.2 x 11 mm; Packing: Carton, Case; RoHS: True; Series: DSP Relays; Mounting Technology: Through Hole; ComponentLink1Description: Manufacturer URL; ComponentLink1URL: http://www3.panasonic.biz/ac/ae/index.jsp; ComponentLink2Description: Datasheet; ComponentLink2URL: http://www.produktinfo.conrad.com/datenblaetter/500000-524999/504985-da-01-en-LEISTUNGSRELAIS_DSP1_1A1B_5A_12V.pdf; ComponentLink3Description: Package Specification; ComponentLink3URL: http://www.produktinfo.conrad.com/datenblaetter/500000-524999/504985-da-01-en-LEISTUNGSRELAIS_DSP1_1A1B_5A_12V.pdf
footprint PNSC-DSP-8-2020x1100x1050_V (DSP, 8-Leads, Body 20.2x11mm)
pins: 1 +, 2 +, 5, 8, 9, 12, 15 -, 16 -

## DSP1L2DC24V
designator K?
DSP Relays, 24 V Coil Voltage, 300 mW Nominal Operating Power, -40 to 65 degC, 8-Pin DSP, Carton, Case, RoHS; Manufacturer: Panasonic; PartNumber: DSP1L2DC24V; Coil Voltage: 24 V; Electrical Life: 1x10^5; Max Switching Current: 5 A; Max Switching Voltage: 250 V AC, 30 V DC; Mechanical Life(Min.operation): 5x10^7; Nominal Operating Power: 300 mW; Pb-Free: True; DatasheetVersion: 151106D; PackageVersion: 151106D, 04/2008; PackageReference: DSP-8-2020x1100x1050; PackageDescription: 8-Pin Through Hole Terminal Package, Body 20.2 x 11 mm; Packing: Carton, Case; RoHS: True; Series: DSP Relays; Mounting Technology: Through Hole; ComponentLink1Description: Manufacturer URL; ComponentLink1URL: http://www3.panasonic.biz/ac/ae/index.jsp; ComponentLink2Description: Datasheet; ComponentLink2URL: http://www.produktinfo.conrad.com/datenblaetter/500000-524999/504985-da-01-en-LEISTUNGSRELAIS_DSP1_1A1B_5A_12V.pdf; ComponentLink3Description: Package Specification; ComponentLink3URL: http://www.produktinfo.conrad.com/datenblaetter/500000-524999/504985-da-01-en-LEISTUNGSRELAIS_DSP1_1A1B_5A_12V.pdf
footprint PNSC-DSP-8-2020x1100x1050_V (DSP, 8-Leads, Body 20.2x11mm)
pins: 1 +, 2 +, 5, 8, 9, 12, 15 -, 16 -

## DSP1L2DC24VF
designator K?
DSP Relays, 24 V Coil Voltage, 300 mW Nominal Operating Power, -40 to 65 degC, 8-Pin DSP, Carton, Case, RoHS; Manufacturer: Panasonic; PartNumber: DSP1L2DC24VF; Coil Voltage: 24 V; Electrical Life: 1x10^5; Max Switching Current: 5 A; Max Switching Voltage: 250 V AC, 30 V DC; Mechanical Life(Min.operation): 5x10^7; Nominal Operating Power: 300 mW; Pb-Free: True; DatasheetVersion: 151106D; PackageVersion: 151106D, 04/2008; PackageReference: DSP-8-2020x1100x1050; PackageDescription: 8-Pin Through Hole Terminal Package, Body 20.2 x 11 mm; Packing: Carton, Case; RoHS: True; Series: DSP Relays; Mounting Technology: Through Hole; ComponentLink1Description: Manufacturer URL; ComponentLink1URL: http://www3.panasonic.biz/ac/ae/index.jsp; ComponentLink2Description: Datasheet; ComponentLink2URL: http://www.produktinfo.conrad.com/datenblaetter/500000-524999/504985-da-01-en-LEISTUNGSRELAIS_DSP1_1A1B_5A_12V.pdf; ComponentLink3Description: Package Specification; ComponentLink3URL: http://www.produktinfo.conrad.com/datenblaetter/500000-524999/504985-da-01-en-LEISTUNGSRELAIS_DSP1_1A1B_5A_12V.pdf
footprint PNSC-DSP-8-2020x1100x1050_V (DSP, 8-Leads, Body 20.2x11mm)
pins: 1 +, 2 +, 5, 8, 9, 12, 15 -, 16 -

## DSP1LDC3VF
designator K?
DSP Relays, 3 V Coil Voltage, 150 mW Nominal Operating Power, -40 to 65 degC, 6-Pin DSP, Carton, Case, RoHS; Manufacturer: Panasonic; PartNumber: DSP1LDC3VF; Coil Voltage: 3 V; Electrical Life: 1x10^5; Max Switching Current: 5 A; Max Switching Voltage: 250 V AC, 30 V DC; Mechanical Life(Min.operation): 5x10^7; Nominal Operating Power: 150 mW; Pb-Free: True; DatasheetVersion: 151106D; PackageVersion: 151106D, 04/2008; PackageReference: DSP-6-2020x1100x1050-1; PackageDescription: 6-Pin Through Hole Terminal Package, Body 20.2 x 11 mm; Packing: Carton, Case; RoHS: True; Series: DSP Relays; Mounting Technology: Through Hole; ComponentLink1Description: Manufacturer URL; ComponentLink1URL: http://www3.panasonic.biz/ac/ae/index.jsp; ComponentLink2Description: Datasheet; ComponentLink2URL: http://www.produktinfo.conrad.com/datenblaetter/500000-524999/504985-da-01-en-LEISTUNGSRELAIS_DSP1_1A1B_5A_12V.pdf; ComponentLink3Description: Package Specification; ComponentLink3URL: http://www.produktinfo.conrad.com/datenblaetter/500000-524999/504985-da-01-en-LEISTUNGSRELAIS_DSP1_1A1B_5A_12V.pdf
footprint PNSC-DSP-6-2020x1100x1050-1_V (DSP, 6-Leads, Body 20.2x11mm)
pins: 1 +, 5, 8, 9, 12, 16 -

## DSP1LDC5VF
designator K?
DSP Relays, 5 V Coil Voltage, 150 mW Nominal Operating Power, -40 to 65 degC, 6-Pin DSP, Carton, Case, RoHS; Manufacturer: Panasonic; PartNumber: DSP1LDC5VF; Coil Voltage: 5 V; Electrical Life: 1x10^5; Max Switching Current: 5 A; Max Switching Voltage: 250 V AC, 30 V DC; Mechanical Life(Min.operation): 5x10^7; Nominal Operating Power: 150 mW; Pb-Free: True; DatasheetVersion: 151106D; PackageVersion: 151106D, 04/2008; PackageReference: DSP-6-2020x1100x1050-1; PackageDescription: 6-Pin Through Hole Terminal Package, Body 20.2 x 11 mm; Packing: Carton, Case; RoHS: True; Series: DSP Relays; Mounting Technology: Through Hole; ComponentLink1Description: Manufacturer URL; ComponentLink1URL: http://www3.panasonic.biz/ac/ae/index.jsp; ComponentLink2Description: Datasheet; ComponentLink2URL: http://www.produktinfo.conrad.com/datenblaetter/500000-524999/504985-da-01-en-LEISTUNGSRELAIS_DSP1_1A1B_5A_12V.pdf; ComponentLink3Description: Package Specification; ComponentLink3URL: http://www.produktinfo.conrad.com/datenblaetter/500000-524999/504985-da-01-en-LEISTUNGSRELAIS_DSP1_1A1B_5A_12V.pdf
footprint PNSC-DSP-6-2020x1100x1050-1_V (DSP, 6-Leads, Body 20.2x11mm)
pins: 1 +, 5, 8, 9, 12, 16 -

## DSP1LDC6VF
designator K?
DSP Relays, 6 V Coil Voltage, 150 mW Nominal Operating Power, -40 to 65 degC, 6-Pin DSP, Carton, Case, RoHS; Manufacturer: Panasonic; PartNumber: DSP1LDC6VF; Coil Voltage: 6 V; Electrical Life: 1x10^5; Max Switching Current: 5 A; Max Switching Voltage: 250 V AC, 30 V DC; Mechanical Life(Min.operation): 5x10^7; Nominal Operating Power: 150 mW; Pb-Free: True; DatasheetVersion: 151106D; PackageVersion: 151106D, 04/2008; PackageReference: DSP-6-2020x1100x1050-1; PackageDescription: 6-Pin Through Hole Terminal Package, Body 20.2 x 11 mm; Packing: Carton, Case; RoHS: True; Series: DSP Relays; Mounting Technology: Through Hole; ComponentLink1Description: Manufacturer URL; ComponentLink1URL: http://www3.panasonic.biz/ac/ae/index.jsp; ComponentLink2Description: Datasheet; ComponentLink2URL: http://www.produktinfo.conrad.com/datenblaetter/500000-524999/504985-da-01-en-LEISTUNGSRELAIS_DSP1_1A1B_5A_12V.pdf; ComponentLink3Description: Package Specification; ComponentLink3URL: http://www.produktinfo.conrad.com/datenblaetter/500000-524999/504985-da-01-en-LEISTUNGSRELAIS_DSP1_1A1B_5A_12V.pdf
footprint PNSC-DSP-6-2020x1100x1050-1_V (DSP, 6-Leads, Body 20.2x11mm)
pins: 1 +, 5, 8, 9, 12, 16 -

## DSP1LDC9VF
designator K?
DSP Relays, 9 V Coil Voltage, 150 mW Nominal Operating Power, -40 to 65 degC, 6-Pin DSP, Carton, Case, RoHS; Manufacturer: Panasonic; PartNumber: DSP1LDC9VF; Coil Voltage: 9 V; Electrical Life: 1x10^5; Max Switching Current: 5 A; Max Switching Voltage: 250 V AC, 30 V DC; Mechanical Life(Min.operation): 5x10^7; Nominal Operating Power: 150 mW; Pb-Free: True; DatasheetVersion: 151106D; PackageVersion: 151106D, 04/2008; PackageReference: DSP-6-2020x1100x1050-1; PackageDescription: 6-Pin Through Hole Terminal Package, Body 20.2 x 11 mm; Packing: Carton, Case; RoHS: True; Series: DSP Relays; Mounting Technology: Through Hole; ComponentLink1Description: Manufacturer URL; ComponentLink1URL: http://www3.panasonic.biz/ac/ae/index.jsp; ComponentLink2Description: Datasheet; ComponentLink2URL: http://www.produktinfo.conrad.com/datenblaetter/500000-524999/504985-da-01-en-LEISTUNGSRELAIS_DSP1_1A1B_5A_12V.pdf; ComponentLink3Description: Package Specification; ComponentLink3URL: http://www.produktinfo.conrad.com/datenblaetter/500000-524999/504985-da-01-en-LEISTUNGSRELAIS_DSP1_1A1B_5A_12V.pdf
footprint PNSC-DSP-6-2020x1100x1050-1_V (DSP, 6-Leads, Body 20.2x11mm)
pins: 1 +, 5, 8, 9, 12, 16 -

## DSP1LDC12VF
designator K?
DSP Relays, 12 V Coil Voltage, 150 mW Nominal Operating Power, -40 to 65 degC, 6-Pin DSP, Carton, Case, RoHS; Manufacturer: Panasonic; PartNumber: DSP1LDC12VF; Coil Voltage: 12 V; Electrical Life: 1x10^5; Max Switching Current: 5 A; Max Switching Voltage: 250 V AC, 30 V DC; Mechanical Life(Min.operation): 5x10^7; Nominal Operating Power: 150 mW; Pb-Free: True; DatasheetVersion: 151106D; PackageVersion: 151106D, 04/2008; PackageReference: DSP-6-2020x1100x1050-1; PackageDescription: 6-Pin Through Hole Terminal Package, Body 20.2 x 11 mm; Packing: Carton, Case; RoHS: True; Series: DSP Relays; Mounting Technology: Through Hole; ComponentLink1Description: Manufacturer URL; ComponentLink1URL: http://www3.panasonic.biz/ac/ae/index.jsp; ComponentLink2Description: Datasheet; ComponentLink2URL: http://www.produktinfo.conrad.com/datenblaetter/500000-524999/504985-da-01-en-LEISTUNGSRELAIS_DSP1_1A1B_5A_12V.pdf; ComponentLink3Description: Package Specification; ComponentLink3URL: http://www.produktinfo.conrad.com/datenblaetter/500000-524999/504985-da-01-en-LEISTUNGSRELAIS_DSP1_1A1B_5A_12V.pdf
footprint PNSC-DSP-6-2020x1100x1050-1_V (DSP, 6-Leads, Body 20.2x11mm)
pins: 1 +, 5, 8, 9, 12, 16 -

## DSP1LDC24VF
designator K?
DSP Relays, 24 V Coil Voltage, 150 mW Nominal Operating Power, -40 to 65 degC, 6-Pin DSP, Carton, Case, RoHS; Manufacturer: Panasonic; PartNumber: DSP1LDC24VF; Coil Voltage: 24 V; Electrical Life: 1x10^5; Max Switching Current: 5 A; Max Switching Voltage: 250 V AC, 30 V DC; Mechanical Life(Min.operation): 5x10^7; Nominal Operating Power: 150 mW; Pb-Free: True; DatasheetVersion: 151106D; PackageVersion: 151106D, 04/2008; PackageReference: DSP-6-2020x1100x1050-1; PackageDescription: 6-Pin Through Hole Terminal Package, Body 20.2 x 11 mm; Packing: Carton, Case; RoHS: True; Series: DSP Relays; Mounting Technology: Through Hole; ComponentLink1Description: Manufacturer URL; ComponentLink1URL: http://www3.panasonic.biz/ac/ae/index.jsp; ComponentLink2Description: Datasheet; ComponentLink2URL: http://www.produktinfo.conrad.com/datenblaetter/500000-524999/504985-da-01-en-LEISTUNGSRELAIS_DSP1_1A1B_5A_12V.pdf; ComponentLink3Description: Package Specification; ComponentLink3URL: http://www.produktinfo.conrad.com/datenblaetter/500000-524999/504985-da-01-en-LEISTUNGSRELAIS_DSP1_1A1B_5A_12V.pdf
footprint PNSC-DSP-6-2020x1100x1050-1_V (DSP, 6-Leads, Body 20.2x11mm)
pins: 1 +, 5, 8, 9, 12, 16 -

## DSP2ADC3V
designator K?
DSP Relays, 3 V Coil Voltage, 300 mW Nominal Operating Power, -40 to 65 degC, 6-Pin DSP, Carton, Case, RoHS; Manufacturer: Panasonic; PartNumber: DSP2ADC3V; Coil Voltage: 3 V; Electrical Life: 1x10^5; Max Switching Current: 5 A; Max Switching Voltage: 250 V AC, 30 V DC; Mechanical Life(Min.operation): 5x10^7; Nominal Operating Power: 300 mW; Pb-Free: True; DatasheetVersion: 151106D; PackageVersion: 151106D, 04/2008; PackageReference: DSP-6-2020x1100x1050-1; PackageDescription: 6-Pin Through Hole Terminal Package, Body 20.2 x 11 mm; Packing: Carton, Case; RoHS: True; Series: DSP Relays; Mounting Technology: Through Hole; ComponentLink1Description: Manufacturer URL; ComponentLink1URL: http://www3.panasonic.biz/ac/ae/index.jsp; ComponentLink2Description: Datasheet; ComponentLink2URL: http://www.produktinfo.conrad.com/datenblaetter/500000-524999/504985-da-01-en-LEISTUNGSRELAIS_DSP1_1A1B_5A_12V.pdf; ComponentLink3Description: Package Specification; ComponentLink3URL: http://www.produktinfo.conrad.com/datenblaetter/500000-524999/504985-da-01-en-LEISTUNGSRELAIS_DSP1_1A1B_5A_12V.pdf
footprint PNSC-DSP-6-2020x1100x1050-1_V (DSP, 6-Leads, Body 20.2x11mm)
pins: 1 +, 5, 8, 9, 12, 16 -

## DSP2ADC5V
designator K?
DSP Relays, 5 V Coil Voltage, 300 mW Nominal Operating Power, -40 to 65 degC, 6-Pin DSP, Carton, Case, RoHS; Manufacturer: Panasonic; PartNumber: DSP2ADC5V; Coil Voltage: 5 V; Electrical Life: 1x10^5; Max Switching Current: 5 A; Max Switching Voltage: 250 V AC, 30 V DC; Mechanical Life(Min.operation): 5x10^7; Nominal Operating Power: 300 mW; Pb-Free: True; DatasheetVersion: 151106D; PackageVersion: 151106D, 04/2008; PackageReference: DSP-6-2020x1100x1050-1; PackageDescription: 6-Pin Through Hole Terminal Package, Body 20.2 x 11 mm; Packing: Carton, Case; RoHS: True; Series: DSP Relays; Mounting Technology: Through Hole; ComponentLink1Description: Manufacturer URL; ComponentLink1URL: http://www3.panasonic.biz/ac/ae/index.jsp; ComponentLink2Description: Datasheet; ComponentLink2URL: http://www.produktinfo.conrad.com/datenblaetter/500000-524999/504985-da-01-en-LEISTUNGSRELAIS_DSP1_1A1B_5A_12V.pdf; ComponentLink3Description: Package Specification; ComponentLink3URL: http://www.produktinfo.conrad.com/datenblaetter/500000-524999/504985-da-01-en-LEISTUNGSRELAIS_DSP1_1A1B_5A_12V.pdf
footprint PNSC-DSP-6-2020x1100x1050-1_V (DSP, 6-Leads, Body 20.2x11mm)
pins: 1 +, 5, 8, 9, 12, 16 -

## DSP2ADC5VR
designator K?
DSP Relays, 5 V Coil Voltage, 300 mW Nominal Operating Power, -40 to 65 degC, 6-Pin DSP, Carton, Case, RoHS; Manufacturer: Panasonic; PartNumber: DSP2ADC5VR; Coil Voltage: 5 V; Electrical Life: 1x10^5; Max Switching Current: 5 A; Max Switching Voltage: 250 V AC, 30 V DC; Mechanical Life(Min.operation): 5x10^7; Nominal Operating Power: 300 mW; Pb-Free: True; DatasheetVersion: 151106D; PackageVersion: 151106D, 04/2008; PackageReference: DSP-6-2020x1100x1050-1; PackageDescription: 6-Pin Through Hole Terminal Package, Body 20.2 x 11 mm; Packing: Carton, Case; RoHS: True; Series: DSP Relays; Mounting Technology: Through Hole; ComponentLink1Description: Manufacturer URL; ComponentLink1URL: http://www3.panasonic.biz/ac/ae/index.jsp; ComponentLink2Description: Datasheet; ComponentLink2URL: http://www.produktinfo.conrad.com/datenblaetter/500000-524999/504985-da-01-en-LEISTUNGSRELAIS_DSP1_1A1B_5A_12V.pdf; ComponentLink3Description: Package Specification; ComponentLink3URL: http://www.produktinfo.conrad.com/datenblaetter/500000-524999/504985-da-01-en-LEISTUNGSRELAIS_DSP1_1A1B_5A_12V.pdf
footprint PNSC-DSP-6-2020x1100x1050-1_V (DSP, 6-Leads, Body 20.2x11mm)
pins: 1 +, 5, 8, 9, 12, 16 -

## DSP2ADC6V
designator K?
DSP Relays, 6 V Coil Voltage, 300 mW Nominal Operating Power, -40 to 65 degC, 6-Pin DSP, Carton, Case, RoHS; Manufacturer: Panasonic; PartNumber: DSP2ADC6V; Coil Voltage: 6 V; Electrical Life: 1x10^5; Max Switching Current: 5 A; Max Switching Voltage: 250 V AC, 30 V DC; Mechanical Life(Min.operation): 5x10^7; Nominal Operating Power: 300 mW; Pb-Free: True; DatasheetVersion: 151106D; PackageVersion: 151106D, 04/2008; PackageReference: DSP-6-2020x1100x1050-1; PackageDescription: 6-Pin Through Hole Terminal Package, Body 20.2 x 11 mm; Packing: Carton, Case; RoHS: True; Series: DSP Relays; Mounting Technology: Through Hole; ComponentLink1Description: Manufacturer URL; ComponentLink1URL: http://www3.panasonic.biz/ac/ae/index.jsp; ComponentLink2Description: Datasheet; ComponentLink2URL: http://www.produktinfo.conrad.com/datenblaetter/500000-524999/504985-da-01-en-LEISTUNGSRELAIS_DSP1_1A1B_5A_12V.pdf; ComponentLink3Description: Package Specification; ComponentLink3URL: http://www.produktinfo.conrad.com/datenblaetter/500000-524999/504985-da-01-en-LEISTUNGSRELAIS_DSP1_1A1B_5A_12V.pdf
footprint PNSC-DSP-6-2020x1100x1050-1_V (DSP, 6-Leads, Body 20.2x11mm)
pins: 1 +, 5, 8, 9, 12, 16 -

## DSP2ADC9V
designator K?
DSP Relays, 9 V Coil Voltage, 300 mW Nominal Operating Power, -40 to 65 degC, 6-Pin DSP, Carton, Case, RoHS; Manufacturer: Panasonic; PartNumber: DSP2ADC9V; Coil Voltage: 9 V; Electrical Life: 1x10^5; Max Switching Current: 5 A; Max Switching Voltage: 250 V AC, 30 V DC; Mechanical Life(Min.operation): 5x10^7; Nominal Operating Power: 300 mW; Pb-Free: True; DatasheetVersion: 151106D; PackageVersion: 151106D, 04/2008; PackageReference: DSP-6-2020x1100x1050-1; PackageDescription: 6-Pin Through Hole Terminal Package, Body 20.2 x 11 mm; Packing: Carton, Case; RoHS: True; Series: DSP Relays; Mounting Technology: Through Hole; ComponentLink1Description: Manufacturer URL; ComponentLink1URL: http://www3.panasonic.biz/ac/ae/index.jsp; ComponentLink2Description: Datasheet; ComponentLink2URL: http://www.produktinfo.conrad.com/datenblaetter/500000-524999/504985-da-01-en-LEISTUNGSRELAIS_DSP1_1A1B_5A_12V.pdf; ComponentLink3Description: Package Specification; ComponentLink3URL: http://www.produktinfo.conrad.com/datenblaetter/500000-524999/504985-da-01-en-LEISTUNGSRELAIS_DSP1_1A1B_5A_12V.pdf
footprint PNSC-DSP-6-2020x1100x1050-1_V (DSP, 6-Leads, Body 20.2x11mm)
pins: 1 +, 5, 8, 9, 12, 16 -

## DSP2ADC12V
designator K?
DSP Relays, 12 V Coil Voltage, 300 mW Nominal Operating Power, -40 to 65 degC, 6-Pin DSP, Carton, Case, RoHS; Manufacturer: Panasonic; PartNumber: DSP2ADC12V; Coil Voltage: 12 V; Electrical Life: 1x10^5; Max Switching Current: 5 A; Max Switching Voltage: 250 V AC, 30 V DC; Mechanical Life(Min.operation): 5x10^7; Nominal Operating Power: 300 mW; Pb-Free: True; DatasheetVersion: 151106D; PackageVersion: 151106D, 04/2008; PackageReference: DSP-6-2020x1100x1050-1; PackageDescription: 6-Pin Through Hole Terminal Package, Body 20.2 x 11 mm; Packing: Carton, Case; RoHS: True; Series: DSP Relays; Mounting Technology: Through Hole; ComponentLink1Description: Manufacturer URL; ComponentLink1URL: http://www3.panasonic.biz/ac/ae/index.jsp; ComponentLink2Description: Datasheet; ComponentLink2URL: http://www.produktinfo.conrad.com/datenblaetter/500000-524999/504985-da-01-en-LEISTUNGSRELAIS_DSP1_1A1B_5A_12V.pdf; ComponentLink3Description: Package Specification; ComponentLink3URL: http://www.produktinfo.conrad.com/datenblaetter/500000-524999/504985-da-01-en-LEISTUNGSRELAIS_DSP1_1A1B_5A_12V.pdf
footprint PNSC-DSP-6-2020x1100x1050-1_V (DSP, 6-Leads, Body 20.2x11mm)
pins: 1 +, 5, 8, 9, 12, 16 -

## DSP2ADC12VR
designator K?
DSP Relays, 12 V Coil Voltage, 300 mW Nominal Operating Power, -40 to 65 degC, 6-Pin DSP, Carton, Case, RoHS; Manufacturer: Panasonic; PartNumber: DSP2ADC12VR; Coil Voltage: 12 V; Electrical Life: 1x10^5; Max Switching Current: 5 A; Max Switching Voltage: 250 V AC, 30 V DC; Mechanical Life(Min.operation): 5x10^7; Nominal Operating Power: 300 mW; Pb-Free: True; DatasheetVersion: 151106D; PackageVersion: 151106D, 04/2008; PackageReference: DSP-6-2020x1100x1050-1; PackageDescription: 6-Pin Through Hole Terminal Package, Body 20.2 x 11 mm; Packing: Carton, Case; RoHS: True; Series: DSP Relays; Mounting Technology: Through Hole; ComponentLink1Description: Manufacturer URL; ComponentLink1URL: http://www3.panasonic.biz/ac/ae/index.jsp; ComponentLink2Description: Datasheet; ComponentLink2URL: http://www.produktinfo.conrad.com/datenblaetter/500000-524999/504985-da-01-en-LEISTUNGSRELAIS_DSP1_1A1B_5A_12V.pdf; ComponentLink3Description: Package Specification; ComponentLink3URL: http://www.produktinfo.conrad.com/datenblaetter/500000-524999/504985-da-01-en-LEISTUNGSRELAIS_DSP1_1A1B_5A_12V.pdf
footprint PNSC-DSP-6-2020x1100x1050-1_V (DSP, 6-Leads, Body 20.2x11mm)
pins: 1 +, 5, 8, 9, 12, 16 -